# EAGLE library part BME280 (library Ai_Sensors)
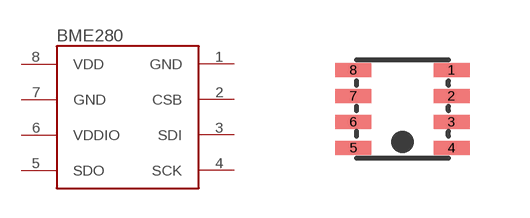
[diagram p5: symbol with the pads of BME280; footprint BME280]

Designator prefix U

## BME280  [BME280]
1  GND  pwr
2  CSB  pwr
3  SDI  in
4  SCK  in
5  SDO
6  VDDIO  pwr
7  GND  pwr
8  VDD  pwr

## Footprint BME280 (pad centres in mm)
smd 0.9 x 0.35: 1 1.225,0.975; 2 1.225,0.325; 3 1.225,-0.325; 4 1.225,-0.975; 5 -1.225,-0.975; 6 -1.225,-0.325; 7 -1.225,0.325; 8 -1.225,0.975